# Altium schematic symbol library CMChoke.SchLib: 2 symbols
Pins are listed as number, name and electrical type; pins without a type are passive.

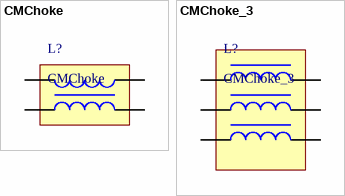
[diagram p0: symbols CMChoke to CMChoke_3]

## CMChoke
designator L?
Common mode choke
footprint CMChoke
pins: 1, 2, 3, 4

## CMChoke_3
designator L?
Common mode choke
footprint CMChoke_3
pins: 1, 2, 3, 4, 5, 6